# EAGLE library part ISO308X (library PP_DigitalIC)
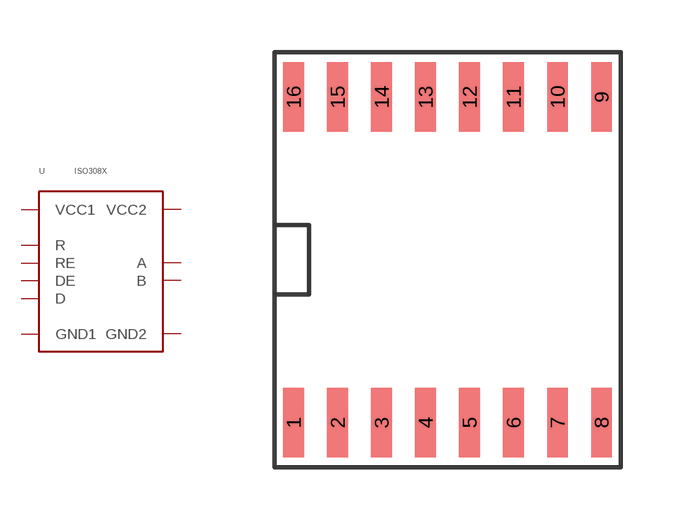
[diagram p16: symbol with the pads of SOIC-16; footprint SOIC-16]

Designator prefix U

## ISO308XSOIC-16  [SOIC-16]
1  VCC1
2  GND1
3  R
4  RE
5  DE
6  D
7  GND1
8  GND1
9  GND2
10  GND2
12  A
13  B
15  GND2
16  VCC2

## Footprint SOIC-16 (pad centres in mm)
smd 0.6 x 2: 1 -4.445,-4.7; 2 -3.175,-4.7; 3 -1.905,-4.7; 4 -0.635,-4.7; 5 0.635,-4.7; 6 1.905,-4.7; 7 3.175,-4.7; 8 4.445,-4.7; 9 4.445,4.7; 10 3.175,4.7; 11 1.905,4.7; 12 0.635,4.7; 13 -0.635,4.7; 14 -1.905,4.7; 15 -3.175,4.7; 16 -4.445,4.7